# Altium footprint library Library v1.9.PcbLib: 90 footprints (part 4 of 6)
Each footprint in its own frame and in the unit in brackets; x right, y up, seen from the top. Pads: shape width x height; smd on the part's side, far side on the other; paste and mask are expansions set on the pad; w line width, h text height; cw(c..) or ccw(c..) is an arc to the next point about the centre after c.
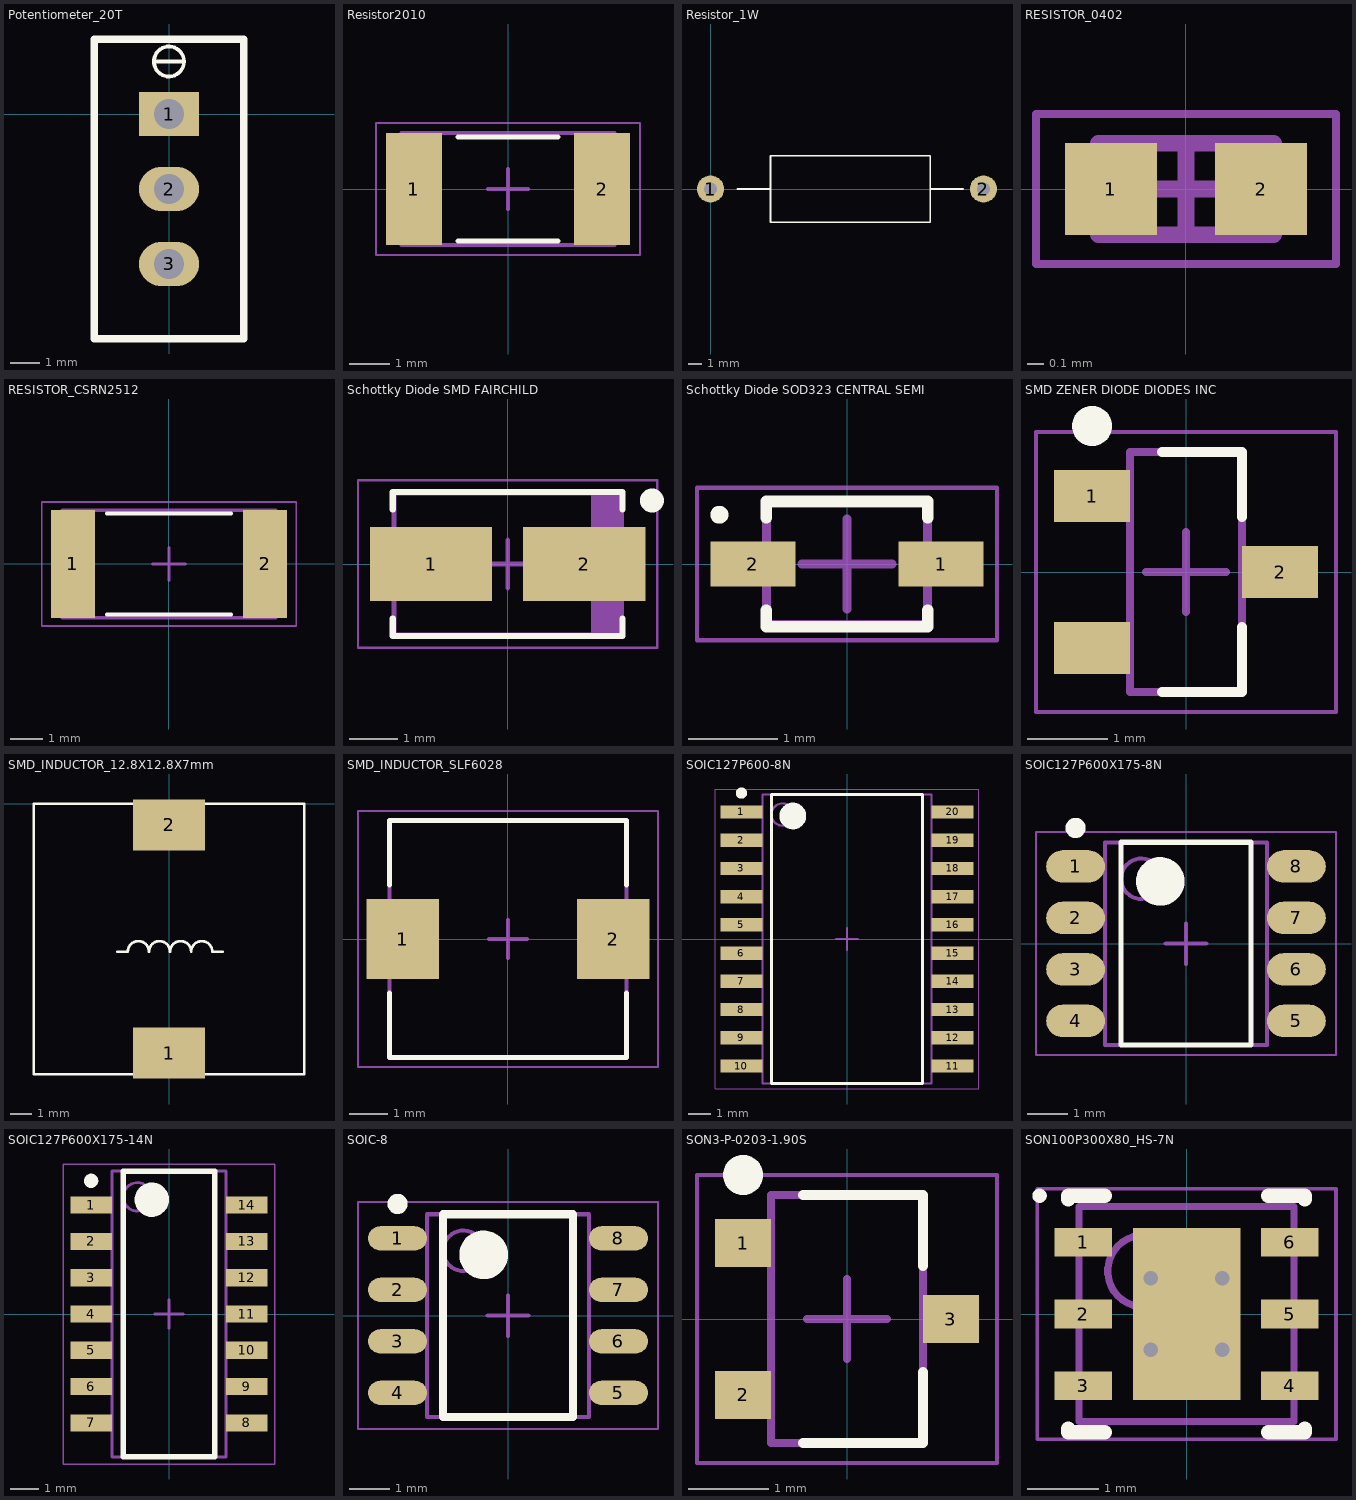
[diagram p3: the footprints below, top view; thin cyan lines are the x and y axes]

## Potentiometer_20T [mm]
pads (3):
  rect 2.032x1.5 hole 1: 1(0,0)
  oval 2.032x1.5 hole 1: 2(0,-2.54) 3(0,-5.08)
Top Overlay:
  circle w0.127: c0,1.778 r0.508
  lines w0.127: -0.508,1.778 0.508,1.778
  lines w0.254: -2.54,-7.62 -2.54,2.54 0,2.54 2.54,2.54 2.54,-7.62 -2.54,-7.62

## Resistor2010 [mm]
height 0.89
pads (2):
  rect 1.4x2.8 smd: 1(-2.35,0) 2(2.35,0)
Top Overlay:
  lines w0.127: -1.25,-1.3 1.25,-1.3 ; -1.25,1.3 1.25,1.3
Mechanical 13:
  lines w0.1: -2.665,-1.395 2.665,-1.395 2.665,1.395 -2.665,1.395 -2.665,-1.395
Mechanical 15:
  lines w0.05: -3.3,-1.65 3.3,-1.65 3.3,1.65 -3.3,1.65 -3.3,-1.65
  lines w0.1: -0.5,0 0.5,0 ; 0,-0.5 0,0.5
3D body "Resistor2010.step": height 0.89, standoff 0, extent -2.665,-1.395 2.665,1.395

## Resistor_1W [mil]
pads (2):
  round 80 hole 39.37: 1(0,0) 2(807.48,0)
Top Overlay:
  lines w5: 78.74,0 177.17,0 ; 748.03,0 649.61,0 ; 177.17,0 177.17,-98.43 649.61,-98.43 649.61,0 ; 177.17,0 177.17,98.43 649.61,98.43 649.61,0

## RESISTOR_0402 [mm]
height 0.37
pads (2):
  rect 0.55x0.55 smd: 1(-0.45,0) 2(0.45,0)
Mechanical 13:
  lines w0.1: -0.525,-0.275 -0.525,0.275 0.525,0.275 0.525,-0.275 -0.525,-0.275
Mechanical 15:
  lines w0.05: -0.9,-0.45 -0.9,0.45 0.9,0.45 0.9,-0.45 -0.9,-0.45
  lines w0.1: -0.275,0 0.275,0 ; 0,-0.275 0,0.275
3D body "0402 Resistor.step": height 0.37, standoff 0, extent -0.525,-0.275 0.525,0.275

## RESISTOR_CSRN2512 [mm] "Chip Resistor, 2-Leads, Body 6.35x3.15mm, IPC Medium Density"
height 0.7
pads (2):
  rect 1.35x3.3 smd: 1(-2.95,0) 2(2.95,0)
Top Overlay:
  lines w0.127: -1.9,-1.55 1.9,-1.55 ; -1.9,1.55 1.9,1.55
Mechanical 13:
  lines w0.1: -3.275,-1.65 3.275,-1.65 3.275,1.65 -3.275,1.65 -3.275,-1.65
Mechanical 15:
  lines w0.05: -3.9,-1.9 3.9,-1.9 3.9,1.9 -3.9,1.9 -3.9,-1.9
  lines w0.1: -0.5,0 0.5,0 ; 0,-0.5 0,0.5
3D body "RESISTOR_CSRN2512.step": height 0.7, standoff 0, extent -3.275,-1.65 3.275,1.65

## Schottky Diode SMD FAIRCHILD [mm] "Molded Diode, 2-Leads, Body 4.38x2.73mm, IPC Medium Density"
height 2.5
pads (2):
  rect 2.55x1.55 smd: 1(-1.6,0) 2(1.6,0)
Top Overlay:
  circle w0.25: c3.014,1.325 r0.125
  lines w0.127: -2.4,-1.138 -2.4,-1.5 2.4,-1.5 2.4,-1.138 ; -2.4,1.138 -2.4,1.5 2.4,1.5 2.4,1.138
Mechanical 13:
  rectangle: 1.736,-1.475 2.375,1.475
  lines w0.1: -2.375,-1.475 -2.375,1.475 2.375,1.475 2.375,-1.475 -2.375,-1.475
Mechanical 15:
  lines w0.05: -3.125,-1.75 -3.125,1.75 3.125,1.75 3.125,-1.75 -3.125,-1.75
  lines w0.1: -0.5,0 0.5,0 ; 0,-0.5 0,0.5
3D body "Schottky Diode SMD FAIRCHILD.step": height 2.5, standoff 0, extent -2.595,-1.475 2.595,1.475

## Schottky Diode SOD323 CENTRAL SEMI [mm] "SODFL, 2-Leads, Body 1.25x2.50mm, IPC Medium Density"
height 1
pads (2):
  rect 0.95x0.5 smd: 1(1.05,0) 2(-1.05,0)
Top Overlay:
  circle w0.1: c-1.425,0.55 r0.05
  lines w0.127: -0.9,-0.513 -0.9,-0.7 0.9,-0.7 0.9,-0.513 ; -0.9,0.513 -0.9,0.7 0.9,0.7 0.9,0.513
Mechanical 13:
  lines w0.1: -0.9,-0.675 0.9,-0.675 0.9,0.675 -0.9,0.675 -0.9,-0.675
Mechanical 15:
  lines w0.05: -1.675,-0.85 1.675,-0.85 1.675,0.85 -1.675,0.85 -1.675,-0.85
  lines w0.1: -0.5,0 0.5,0 ; 0,-0.5 0,0.5
3D body "Schottky Diode SOD323 CENTRAL SEMI.step": height 1, standoff 0, extent -1.25,-0.675 1.25,0.675

## SMD ZENER DIODE DIODES INC [mm]
height 1.2
pads (3):
  rect 0.95x0.65 smd: 1(-1.175,0.95) 2(1.175,0) ""(-1.175,-0.95)
Top Overlay:
  circle w0.25: c-1.175,1.825 r0.125
  lines w0.127: -0.3,-1.5 0.7,-1.5 0.7,-0.689 ; -0.3,1.5 0.7,1.5 0.7,0.689
Mechanical 13:
  lines w0.1: -0.7,-1.5 0.7,-1.5 0.7,1.5 -0.7,1.5 -0.7,-1.5
Mechanical 15:
  lines w0.05: -1.875,-1.75 1.875,-1.75 1.875,1.75 -1.875,1.75 -1.875,-1.75
  lines w0.1: -0.5,0 0.5,0 ; 0,-0.5 0,0.5
3D body "SMD ZENER DIODE DIODES INC.step": height 1.2, standoff 0, extent -1.25,-1.5 1.25,1.5

## SMD_INDUCTOR_12.8X12.8X7mm [mm]
pads (2):
  rect 3.4x2.4 smd: 1(0,-11.8) 2(0,-1)
Top Overlay:
  lines w0.127: -2.45,-7 -1.95,-7 cw(c-1.45,-7) -0.95,-7 cw(c-0.45,-7) 0.05,-7 cw(c0.55,-7) 1.05,-7 cw(c1.55,-7) 2.05,-7 2.55,-7 ; -6.4,-12.8 6.4,-12.8 6.4,0 -6.4,0 -6.4,-12.8

## SMD_INDUCTOR_SLF6028 [mm] "Precision Wire Wound Inductor, 2-Leads, Body 6.00x6.00mm, IPC Medium Density"
height 3
pads (2):
  rect 1.9x2.1 smd: 1(-2.75,0) 2(2.75,0)
Top Overlay:
  lines w0.127: -3.1,-1.413 -3.1,-3.1 3.1,-3.1 3.1,-1.413 ; -3.1,1.413 -3.1,3.1 3.1,3.1 3.1,1.413
Mechanical 13:
  lines w0.1: -3.1,-3.1 3.1,-3.1 3.1,3.1 -3.1,3.1 -3.1,-3.1
Mechanical 15:
  lines w0.05: -3.925,-3.35 3.925,-3.35 3.925,3.35 -3.925,3.35 -3.925,-3.35
  lines w0.1: -0.5,0 0.5,0 ; 0,-0.5 0,0.5
3D body "SMD_INDUCTOR_SLF6028.step": height 3.1, standoff 0, extent -3.1,-3 3.1,3

## SOIC127P600-8N [mm]
height 2.65
pads (20):
  rect 1.9x0.6 smd: 1(-4.75,5.715) 2(-4.75,4.445) 3(-4.75,3.175) 4(-4.75,1.905) 5(-4.75,0.635) 6(-4.75,-0.635) 7(-4.75,-1.905) 8(-4.75,-3.175) 9(-4.75,-4.445) 10(-4.75,-5.715) 11(4.75,-5.715) 12(4.75,-4.445) 13(4.75,-3.175) 14(4.75,-1.905) 15(4.75,-0.635) 16(4.75,0.635) 17(4.75,1.905) 18(4.75,3.175) 19(4.75,4.445) 20(4.75,5.715)
Top Overlay:
  circle w0.6: c-2.437,5.536 r0.3
  circle w0.25: c-4.75,6.565 r0.125
  lines w0.127: -3.4,-6.5 3.4,-6.5 3.4,6.5 -3.4,6.5 -3.4,-6.5
Mechanical 13:
  circle w0.1: c-2.9,5.6 r0.5
  lines w0.1: -3.8,-6.5 3.8,-6.5 3.8,6.5 -3.8,6.5 -3.8,-6.5
Mechanical 15:
  lines w0.05: -5.925,-6.75 5.925,-6.75 5.925,6.75 -5.925,6.75 -5.925,-6.75
  lines w0.1: -0.5,0 0.5,0 ; 0,-0.5 0,0.5
3D body "SOIC127P600-8N.step": height 2.65, standoff 0, extent -5.162,-6.5 5.162,6.5

## SOIC127P600X175-8N [mm] "SOIC, 8-Leads, Body 4.90x3.90mm, Pitch 1.27mm, IPC Medium Density"
height 1.75
pads (8):
  oval 1.45x0.8 smd: 1(-2.725,1.905) 2(-2.725,0.635) 3(-2.725,-0.635) 4(-2.725,-1.905) 5(2.725,-1.905) 6(2.725,-0.635) 7(2.725,0.635) 8(2.725,1.905)
Top Overlay:
  circle w0.25: c-2.725,2.855 r0.125
  circle w0.6: c-0.637,1.536 r0.3
  lines w0.127: -1.6,-2.5 -1.6,2.5 1.6,2.5 1.6,-2.5 -1.6,-2.5
Mechanical 13:
  circle w0.1: c-1.1,1.6 r0.5
  lines w0.1: -2,-2.5 -2,2.5 2,2.5 2,-2.5 -2,-2.5
Mechanical 15:
  lines w0.05: -3.7,-2.75 -3.7,2.75 3.7,2.75 3.7,-2.75 -3.7,-2.75
  lines w0.1: -0.5,0 0.5,0 ; 0,-0.5 0,0.5
3D body "SOIC127P600X175-8N.step": height 1.75, standoff 0, extent -3,-2.5 3,2.5

## SOIC127P600X175-14N [mm] "SOIC, 14-Leads, Body 9.90x3.90mm, Pitch 1.27mm, IPC Medium Density"
height 1.75
pads (14):
  rect 1.45x0.6 smd: 1(-2.725,3.81) 2(-2.725,2.54) 3(-2.725,1.27) 4(-2.725,0) 5(-2.725,-1.27) 6(-2.725,-2.54) 7(-2.725,-3.81) 8(2.725,-3.81) 9(2.725,-2.54) 10(2.725,-1.27) 11(2.725,0) 12(2.725,1.27) 13(2.725,2.54) 14(2.725,3.81)
Top Overlay:
  circle w0.25: c-2.725,4.66 r0.125
  circle w0.6: c-0.6,4 r0.3
  lines w0.2: -1.6,-5 -1.6,5 1.6,5 1.6,-5 -1.6,-5
Mechanical 13:
  circle w0.1: c-1.1,4.1 r0.5
  lines w0.1: -2,-5 -2,5 2,5 2,-5 -2,-5
Mechanical 15:
  lines w0.05: -3.7,-5.25 -3.7,5.25 3.7,5.25 3.7,-5.25 -3.7,-5.25
  lines w0.1: -0.5,0 0.5,0 ; 0,-0.5 0,0.5
3D body "SOIC127P600X175-14N.step": height 1.75, standoff 0, extent -3,-5 3,5

## SOIC-8 [mm] "SOIC, 8-Leads, Body 4.90x3.90mm, Pitch 1.27mm, IPC Medium Density"
height 1.76
pads (8):
  oval 1.45x0.6 smd: 1(-2.725,1.905) 2(-2.725,0.635) 3(-2.725,-0.635) 4(-2.725,-1.905) 5(2.725,-1.905) 6(2.725,-0.635) 7(2.725,0.635) 8(2.725,1.905)
Top Overlay:
  circle w0.25: c-2.725,2.755 r0.125
  circle w0.6: c-0.6,1.5 r0.3
  lines w0.2: -1.6,-2.5 -1.6,2.5 1.6,2.5 1.6,-2.5 -1.6,-2.5
Mechanical 13:
  circle w0.1: c-1.1,1.6 r0.5
  lines w0.1: -2,-2.5 -2,2.5 2,2.5 2,-2.5 -2,-2.5
Mechanical 15:
  lines w0.05: -3.7,-2.8 -3.7,2.8 3.7,2.8 3.7,-2.8 -3.7,-2.8
  lines w0.1: -0.5,0 0.5,0 ; 0,-0.5 0,0.5
3D body "SOIC-8.step": height 1.75, standoff 0, extent -2.997,-2.5 2.997,2.5

## SON3-P-0203-1.90S [mm] "SOT23, 3-Leads, Body 2.90x2.40mm, Pitch 0.95mm, IPC Medium Density"
height 0.88
pads (3):
  rect 0.7x0.6 smd: 1(-1.3,0.95) 2(-1.3,-0.95) 3(1.3,0)
Top Overlay:
  circle w0.25: c-1.3,1.8 r0.125
  lines w0.127: -0.55,-1.55 0.95,-1.55 0.95,-0.663 ; -0.55,1.55 0.95,1.55 0.95,0.664
Mechanical 13:
  lines w0.1: -0.95,-1.55 0.95,-1.55 0.95,1.55 -0.95,1.55 -0.95,-1.55
Mechanical 15:
  lines w0.05: -1.875,-1.8 1.875,-1.8 1.875,1.8 -1.875,1.8 -1.875,-1.8
  lines w0.1: -0.5,0 0.5,0 ; 0,-0.5 0,0.5
3D body "SON3-P-0203-1.90S.step": height 0.88, standoff 0, extent -1.15,-1.55 1.15,1.55

## SON100P300X80_HS-7N [mm] "SON, 6-Leads, Body 3.00x3.00mm, Pitch 1.00mm, Thermal Pad 2.40x1.50mm, IPC Medium Density"
height 0.8
pads (7):
  rect 0.8x0.4 smd: 1(-1.44,1) 2(-1.44,0) 3(-1.44,-1) 4(1.44,-1) 5(1.44,0) 6(1.44,1)
  rect 1.5x2.4 smd: ""(0,0)
via -0.5,0.5 diameter 0.5 hole 0.2
via 0.5,0.5 diameter 0.5 hole 0.2
via -0.5,-0.5 diameter 0.5 hole 0.2
via 0.5,-0.5 diameter 0.5 hole 0.2
Top Overlay:
  circle w0.1: c-2.05,1.65 r0.05
  lines w0.2: -1.65,-1.6 -1.65,-1.65 -1.14,-1.65 ; -1.65,1.6 -1.65,1.65 -1.14,1.65 ; 1.14,-1.65 1.65,-1.65 1.65,-1.6 ; 1.14,1.65 1.65,1.65 1.65,1.6
Mechanical 13:
  circle w0.1: c-0.6,0.6 r0.5
  lines w0.1: -1.5,-1.5 -1.5,1.5 1.5,1.5 1.5,-1.5 -1.5,-1.5
Mechanical 15:
  lines w0.05: -2.085,-1.75 -2.085,1.75 2.085,1.75 2.085,-1.75 -2.085,-1.75
  lines w0.1: -0.5,0 0.5,0 ; 0,-0.5 0,0.5
3D body "SON100P300X80_HS-7N.step": height 0.8, standoff 0, extent -1.501,-1.5 1.501,1.5